# EAGLE library part SOIC28 (library AndreBotelho)
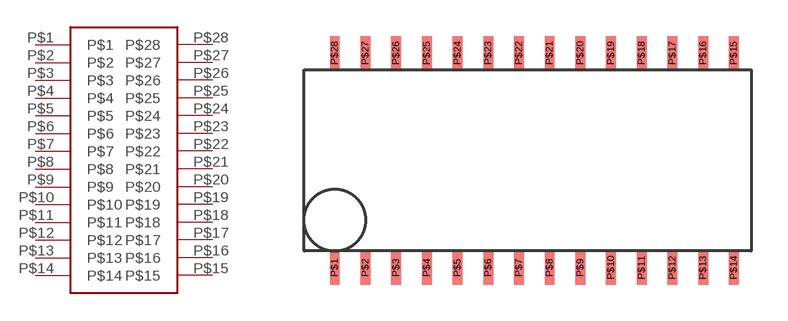
[diagram p3: symbol with the pads of SOIC28; footprint SOIC28]

Designator prefix -

## SOIC28  [SOIC28]
P$1  P$1
P$2  P$2
P$3  P$3
P$4  P$4
P$5  P$5
P$6  P$6
P$7  P$7
P$8  P$8
P$9  P$9
P$10  P$10
P$11  P$11
P$12  P$12
P$13  P$13
P$14  P$14
P$15  P$15
P$16  P$16
P$17  P$17
P$18  P$18
P$19  P$19
P$20  P$20
P$21  P$21
P$22  P$22
P$23  P$23
P$24  P$24
P$25  P$25
P$26  P$26
P$27  P$27
P$28  P$28

## Footprint SOIC28 (pad centres in mm)
smd 0.41 x 1.4: P$1 -7.874,-4.51; P$2 -6.604,-4.51; P$3 -5.334,-4.51; P$4 -4.064,-4.51; P$5 -2.794,-4.51; P$6 -1.524,-4.51; P$7 -0.254,-4.51; P$8 1.016,-4.51; P$9 2.286,-4.51; P$10 3.556,-4.51; P$11 4.826,-4.51; P$12 6.096,-4.51; P$13 7.366,-4.51; P$14 8.636,-4.51; P$15 8.636,4.38; P$16 7.366,4.38; P$17 6.096,4.38; P$18 4.826,4.38; P$19 3.556,4.38; P$20 2.286,4.38; P$21 1.016,4.38; P$22 -0.254,4.38; P$23 -1.524,4.38; P$24 -2.794,4.38; P$25 -4.064,4.38; P$26 -5.334,4.38; P$27 -6.604,4.38; P$28 -7.874,4.38